# EAGLE library part DRV8811 (library texas_ffmc)
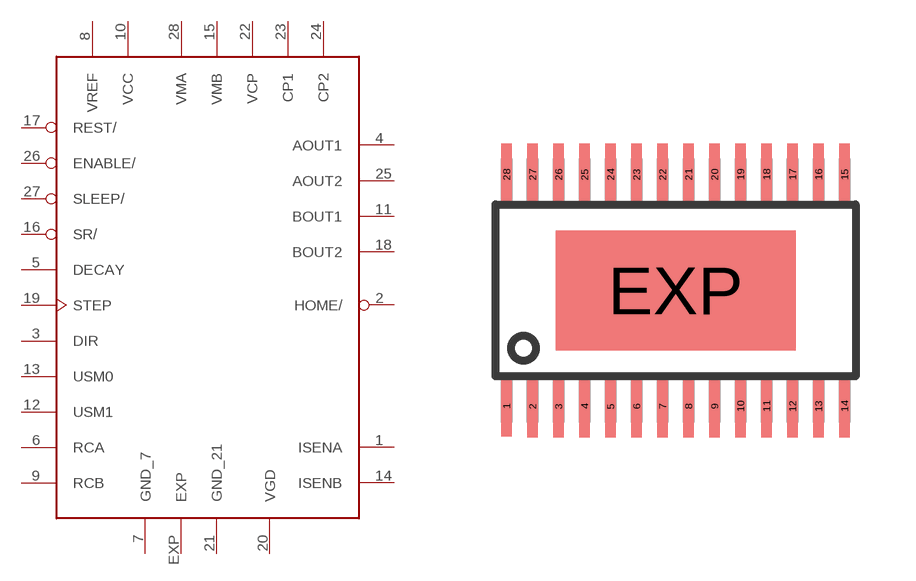
[diagram p118: symbol with the pads of HTSSOP28PWP; footprint HTSSOP28PWP]

Designator prefix -

## DRV8811  [HTSSOP28PWP]
1  ISENA
2  HOME/  out
3  DIR  in
4  AOUT1  in
5  DECAY  in
6  RCA
7  GND_7  sup
8  VREF
9  RCB
10  VCC  sup
11  BOUT1  out
12  USM1  in
13  USM0  in
14  ISENB
15  VMB  sup
16  SR/
17  REST/  in
18  BOUT2  out
19  STEP  in
20  VGD
21  GND_21  sup
22  VCP
23  CP1
24  CP2
25  AOUT2  out
26  ENABLE/  in
27  SLEEP/  in
28  VMA  sup
EXP  EXP  sup

## Footprint HTSSOP28PWP (pad centres in mm)
TPS40055PWP (R-PDSO-G**) PowerPAD (TM) 28 pol. PLASTIC SMALL-OUTLINE PACKAGE Source: www.ti.com ... TPS40055 package.pdf & slma002.pdf
smd 0.27 x 1.5: 1 -4.225,-2.9
smd 0.27 x 1.55: 2 -3.575,-2.9; 3 -2.925,-2.9; 4 -2.275,-2.9; 5 -1.625,-2.9; 6 -0.975,-2.9; 7 -0.325,-2.9; 8 0.325,-2.9; 9 0.975,-2.9; 10 1.625,-2.9; 11 2.275,-2.9; 12 2.925,-2.9; 13 3.575,-2.9; 14 4.225,-2.9; 15 4.225,2.9; 16 3.575,2.9; 17 2.925,2.9; 18 2.275,2.9; 19 1.625,2.9; 20 0.975,2.9; 21 0.325,2.9; 22 -0.325,2.9; 23 -0.975,2.9; 24 -1.625,2.9; 25 -2.275,2.9; 26 -2.925,2.9; 27 -3.575,2.9; 28 -4.225,2.9
smd 6 x 3: EXP 0,0